# Altium integrated library Capacitores SMD ceramicos.IntLib: 4 symbols
Pins are listed as number, name and electrical type; pins without a type are passive.

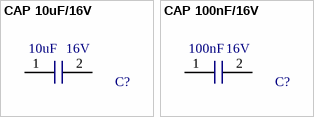
[diagram p0: symbols CAP 10uF/16V to CAP 100nF/16V]

## CAP 10uF/16V
designator C?, comment Capacitance: 10uF  Voltage: 16V  (hidden comment: CAP 10uF/16v)
10µF ±10% 16V Ceramic Capacitor X5R 0805 (2012 Metric); Manufacturer 1: Samsung Electro-Mechanics; Manufacturer 1 PN: CL21A106KOQNNWE; ComponentLink1Description: Specification; ComponentLink1URL: http://www.samsungsem.com/kr/support/product-search/mlcc/__icsFiles/afieldfile/2018/07/27/CL21A106KOQNNWE.pdf; Mouser PN: 710-885012107014; Digikey PN: 1276-2894-1-ND
footprint CAP 10uF/16V (10µF ±10% 16V Ceramic Capacitor X5R 0805 (2012 Metric))
pins: 1, 2

## CAP 100nF/16V
designator C?  Capacitance: 100nF  Voltage: 16V  (hidden comment: CAP 100nF/16V)
0.1µF ±20% 16V Ceramic Capacitor Y5V (F) 0805 (2012 Metric); Manufacturer 1: Samsung Electro-Mechanics; Manufacturer 1 PN: CL21A106KOQNNWE; Mouser PN: 581-08055C104K4Z4A; Digikey PN: 1276-2894-1-ND; ComponentLink1Description: Specifications; ComponentLink1URL: http://www.samsungsem.com/kr/support/product-search/mlcc/__icsFiles/afieldfile/2018/07/27/CL21A106KOQNNWE.pdf
footprint CAP 100nF/16V (0.1µF ±20% 16V Ceramic Capacitor Y5V (F) 0805 (2012 Metric))
pins: 1, 2


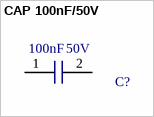
[diagram p1: symbol CAP 100nF/50V]

## CAP 100nF/50V
designator C?  Capacitance: 100nF  Voltage: 50V  (hidden comment: CAP 100nF/50V)
0.1µF ±10% 50V Ceramic Capacitor X5R 0402 (1005 Metric); Manufacturer 1: Yageo; Manufacturer 1 PN: CC0402KRX5R9BB104; Digikey PN: 311-3342-1-ND; ComponentLink1Description: Datasheet; ComponentLink1URL: https://search.murata.co.jp/Ceramy/image/img/A01X/G101/ENG/GRM022R60J103KE19-01.pdf
footprint CAP 100nF/50V (0.1µF ±10% 50V Ceramic Capacitor X5R 0402 (1005 Metric))
pins: 1, 2


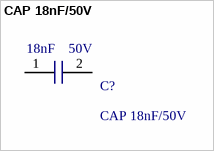
[diagram p2: symbol CAP 18nF/50V]

## CAP 18nF/50V
designator C?  Voltage: 50V  Capacitance: 18nF
0.018µF ±10% 50V Ceramic Capacitor X7R 0805 (2012 Metric); Manufacturer 1: Samsung Electro-Mechanics; Manufacturer 1 PN: CL21B183KBANFNC; ComponentLink1Description: Specifications; ComponentLink1URL: http://www.samsungsem.com/kr/support/product-search/mlcc/__icsFiles/afieldfile/2018/07/23/CL21B183KBANFNC.pdf; Digikey PN: 1276-2467-1-ND; Mouser PN: 581-08055A180J4T2A
footprint CAP 18nF/50V (0.018µF ±10% 50V Ceramic Capacitor X7R 0805 (2012 Metric))
pins: 1, 2